# EAGLE library part LY3200ALH (library LY3200ALH)
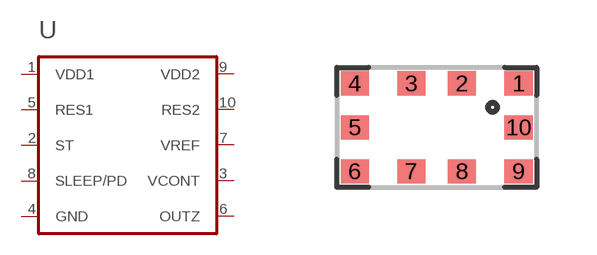
[diagram p0: symbol with the pads of 10-TLGA; footprint 10-TLGA]

Designator prefix -

## LY3200ALH  [10-TLGA]
1  VDD1
2  ST
3  VCONT
4  GND
5  RES1
6  OUTZ
7  VREF
8  SLEEP/PD
9  VDD2
10  RES2

## Footprint 10-TLGA (pad centres in mm)
smd 0.7 x 0.6: 1 2.05,1.1; 2 0.635,1.1; 3 -0.635,1.1; 4 -2.05,1.1; 5 -2.05,0; 6 -2.05,-1.1; 7 -0.635,-1.1; 8 0.635,-1.1; 9 2.05,-1.1; 10 2.05,0